# EAGLE library part TRC103 (library X893)
http://rfm.com/products/data/trc103.pdf
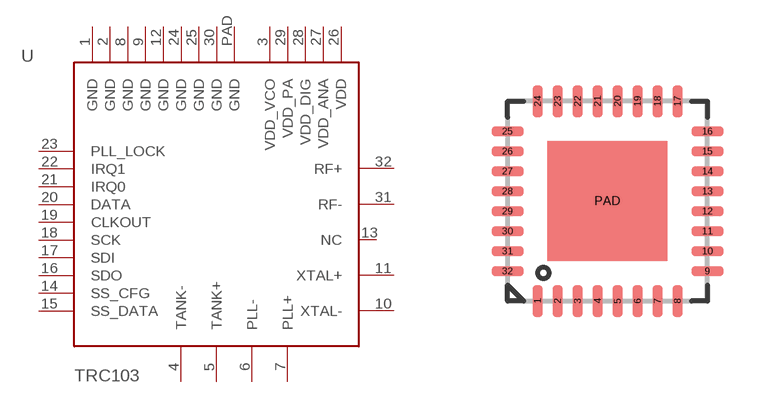
[diagram p151: symbol with the pads of QFN32-5X5; footprint QFN32-5X5]

Designator prefix U

## TRC103  [QFN32-5X5]
1  GND  pwr
2  GND  pwr
3  VDD_VCO
4  TANK-
5  TANK+
6  PLL-
7  PLL+
8  GND  pwr
9  GND  pwr
10  XTAL-
11  XTAL+
12  GND  pwr
13  NC
14  SS_CFG
15  SS_DATA
16  SDO  out
17  SDI
18  SCK
19  CLKOUT  out
20  DATA
21  IRQ0  out
22  IRQ1  out
23  PLL_LOCK  out
24  GND  pwr
25  GND  pwr
26  VDD
27  VDD_ANA
28  VDD_DIG
29  VDD_PA
30  GND  pwr
31  RF-
32  RF+
PAD  GND  pwr

## Footprint QFN32-5X5 (pad centres in mm)
smd 0.25 x 0.8: 1 -1.75,-2.5; 2 -1.25,-2.5; 3 -0.75,-2.5; 4 -0.25,-2.5; 5 0.25,-2.5; 6 0.75,-2.5; 7 1.25,-2.5; 8 1.75,-2.5; 17 1.75,2.5; 18 1.25,2.5; 19 0.75,2.5; 20 0.25,2.5; 21 -0.25,2.5; 22 -0.75,2.5; 23 -1.25,2.5; 24 -1.75,2.5
smd 0.8 x 0.25: 9 2.5,-1.75; 10 2.5,-1.25; 11 2.5,-0.75; 12 2.5,-0.25; 13 2.5,0.25; 14 2.5,0.75; 15 2.5,1.25; 16 2.5,1.75; 25 -2.5,1.75; 26 -2.5,1.25; 27 -2.5,0.75; 28 -2.5,0.25; 29 -2.5,-0.25; 30 -2.5,-0.75; 31 -2.5,-1.25; 32 -2.5,-1.75
smd 0.5 x 0.5: PAD 0,0